# EAGLE library part AD835 (library microphone)
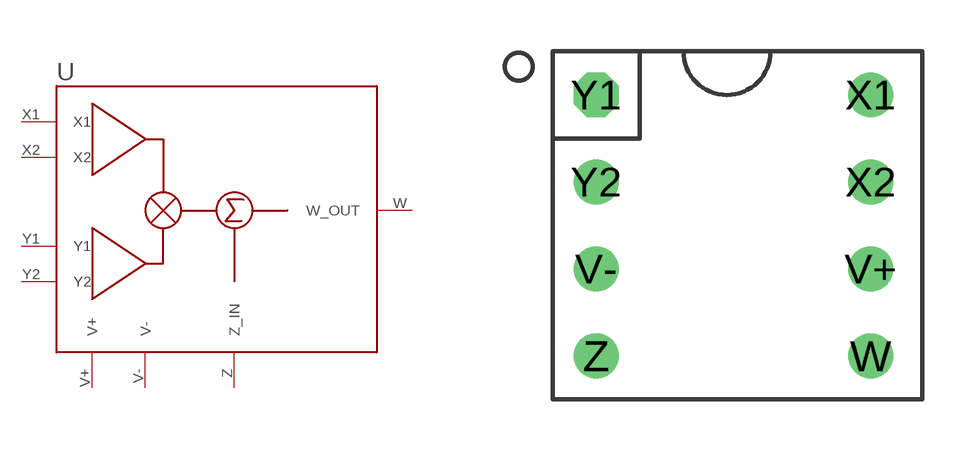
[diagram p1: symbol with the pads of DIP-8-2; footprint DIP-8-2]

Designator prefix -

## AD835  [DIP-8-2]
V+  V+
V-  V-
W  W_OUT
X1  X1
X2  X2
Y1  Y1
Y2  Y2
Z  Z_IN

## Footprint DIP-8-2 (pad centres in mm)
drill 0.8: V+ 8,-5.08; V- 0,-5.08; W 8,-7.62; X1 8,0; X2 8,-2.54; Y2 0,-2.54; Z 0,-7.62
drill 0.8 octagon: Y1 0,0